# Altium footprint library HOLYIOT-18010-VER1.0-0.8MM.PcbLib: 1 footprints
Each footprint in its own frame and in the unit in brackets; x right, y up, seen from the top. Pads: shape width x height; smd on the part's side, far side on the other; paste and mask are expansions set on the pad; w line width, h text height; cw(c..) or ccw(c..) is an arc to the next point about the centre after c.
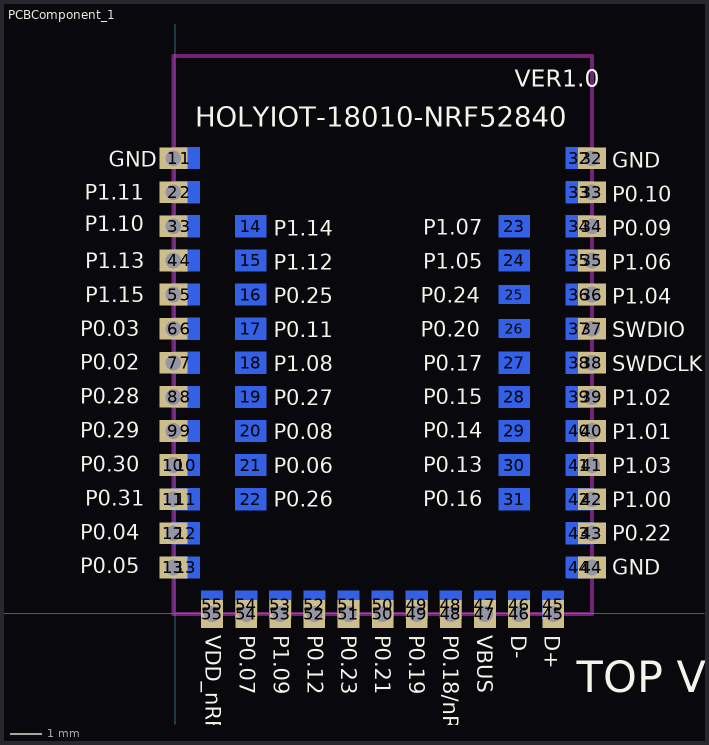
[diagram p0: the footprint, top view; thin cyan lines are the x and y axes]

## PCBComponent_1 [mm]
pads (92):
  rect 0.9x0.7 hole 0.508: 1(-0.063,14.684) 2(-0.063,13.584) 3(-0.063,12.484) 4(-0.063,11.384) 5(-0.063,10.284) 6(-0.063,9.184) 7(-0.063,8.084) 8(-0.063,6.984) 9(-0.063,5.884) 10(-0.063,4.784) 11(-0.063,3.684) 12(-0.063,2.584) 13(-0.063,1.484) 32(13.437,14.684) 33(13.437,13.584) 34(13.437,12.484) 35(13.437,11.384) 36(13.437,10.284) 37(13.437,9.184) 38(13.437,8.084) 39(13.437,6.984) 40(13.437,5.884) 41(13.437,4.784) 42(13.437,3.684) 43(13.437,2.584) 44(13.437,1.484)
  rect 0.9x0.7 smd far side: 1(0.337,14.684) 2(0.337,13.584) 3(0.337,12.484) 4(0.337,11.384) 5(0.337,10.284) 6(0.337,9.184) 7(0.337,8.084) 8(0.337,6.984) 9(0.337,5.884) 10(0.337,4.784) 11(0.337,3.684) 12(0.337,2.584) 13(0.337,1.484) 32(13.037,14.684) 33(13.037,13.584) 34(13.037,12.484) 35(13.037,11.384) 36(13.037,10.284) 37(13.037,9.184) 38(13.037,8.084) 39(13.037,6.984) 40(13.037,5.884) 41(13.037,4.784) 42(13.037,3.684) 43(13.037,2.584) 44(13.037,1.484)
  rect 1x0.7 smd far side: 14(2.437,12.484) 15(2.437,11.384) 16(2.437,10.284) 17(2.437,9.184) 18(2.437,8.084) 19(2.437,6.984) 20(2.437,5.884) 21(2.437,4.784) 22(2.437,3.684) 23(10.937,12.484) 24(10.937,11.384) 27(10.937,8.084) 28(10.937,6.984) 29(10.937,5.884) 30(10.937,4.784) 31(10.937,3.684)
  rect 1x0.6 smd far side: 25(10.937,10.284) 26(10.937,9.184)
  rect 0.7x0.9 hole 0.508: 45(12.187,-0.016) 46(11.087,-0.016) 47(9.987,-0.016) 48(8.887,-0.016) 49(7.787,-0.016) 50(6.687,-0.016) 51(5.587,-0.016) 52(4.487,-0.016) 53(3.387,-0.016) 54(2.287,-0.016) 55(1.187,-0.016)
  rect 0.7x0.9 smd far side: 45(12.187,0.284) 46(11.087,0.284) 47(9.987,0.284) 48(8.887,0.284) 49(7.787,0.284) 50(6.687,0.284) 51(5.587,0.284) 52(4.487,0.284) 53(3.387,0.284) 54(2.287,0.284) 55(1.187,0.284)
Top Overlay:
  text "VER1.0" at 10.942,16.989 h0.55
  text "HOLYIOT-18010-NRF52840" at 0.647,15.694 h0.65
  text "TOP VIEW" at 12.954,-2.54 h1.02
  text "GND" at -2.152,14.414 h0.5
  text "P1.10" at -2.921,12.319 h0.5
  text "P1.11" at -2.921,13.335 h0.5
  text "P1.13" at -2.901,11.133 h0.5
  text "P1.15" at -2.901,10.039 h0.5
  text "P0.03" at -3.068,8.945 h0.5
  text "P0.02" at -3.068,7.851 h0.5
  text "P0.28" at -3.068,6.758 h0.5
  text "P0.29" at -3.068,5.664 h0.5
  text "P0.30" at -3.068,4.57 h0.5
  text "P0.31" at -2.901,3.477 h0.5
  text "P0.04" at -3.068,2.383 h0.5
  text "P0.05" at -3.068,1.289 h0.5
  text "VDD_nRF" at 0.984,-0.696 h0.5
  text "P0.07" at 2.078,-0.696 h0.5
  text "P1.09" at 3.172,-0.696 h0.5
  text "P0.12" at 4.266,-0.696 h0.5
  text "P0.23" at 5.359,-0.696 h0.5
  text "P0.21" at 6.453,-0.696 h0.5
  text "P0.19" at 7.547,-0.696 h0.5
  text "P0.18/nRESET" at 8.641,-0.696 h0.5
  text "VBUS" at 9.734,-0.696 h0.5
  text "D-" at 10.828,-0.696 h0.5
  text "D+" at 11.922,-0.696 h0.5
  text "GND" at 14.097,1.244 h0.5
  text "P0.22" at 14.097,2.338 h0.5
  text "P1.00" at 14.097,3.431 h0.5
  text "P1.03" at 14.097,4.525 h0.5
  text "P1.01" at 14.097,5.619 h0.5
  text "P1.02" at 14.097,6.713 h0.5
  text "SWDCLK" at 14.097,7.806 h0.5
  text "SWDIO" at 14.097,8.9 h0.5
  text "P1.04" at 14.097,9.994 h0.5
  text "P1.06" at 14.097,11.088 h0.5
  text "P0.09" at 14.097,12.181 h0.5
  text "P0.10" at 14.097,13.275 h0.5
  text "GND" at 14.097,14.369 h0.5
  text "P1.14" at 3.182,12.184 h0.5
  text "P1.12" at 3.182,11.09 h0.5
  text "P0.25" at 3.182,9.996 h0.5
  text "P0.11" at 3.182,8.903 h0.5
  text "P1.08" at 3.182,7.809 h0.5
  text "P0.27" at 3.182,6.715 h0.5
  text "P0.08" at 3.182,5.622 h0.5
  text "P0.06" at 3.182,4.528 h0.5
  text "P0.26" at 3.182,3.434 h0.5
  text "P1.07" at 8.005,12.209 h0.5
  text "P1.05" at 8.005,11.115 h0.5
  text "P0.24" at 7.922,10.021 h0.5
  text "P0.20" at 7.922,8.928 h0.5
  text "P0.17" at 8.005,7.834 h0.5
  text "P0.15" at 8.005,6.74 h0.5
  text "P0.14" at 8.005,5.659 h0.5
  text "P0.13" at 8.005,4.553 h0.5
  text "P0.16" at 8.005,3.459 h0.5
Top Solder:
  rectangle: 0.797,0.774 1.232,15.244
  rectangle: 0.797,14.889 2.467,15.339
  rectangle: 0.797,0.774 10.827,1.214
  rectangle: 3.397,14.894 12.582,15.354
  rectangle: 12.052,9.934 12.582,15.354
Keep-Out Layer:
  lines w0.127: -0.063,-0.016 13.437,-0.016 13.437,17.984 -0.063,17.984 -0.063,-0.016